# Altium footprint library mw.PcbLib: 123 footprints (part 6 of 8)
Each footprint in its own frame and in the unit in brackets; x right, y up, seen from the top. Pads: shape width x height; smd on the part's side, far side on the other; paste and mask are expansions set on the pad; w line width, h text height; cw(c..) or ccw(c..) is an arc to the next point about the centre after c.
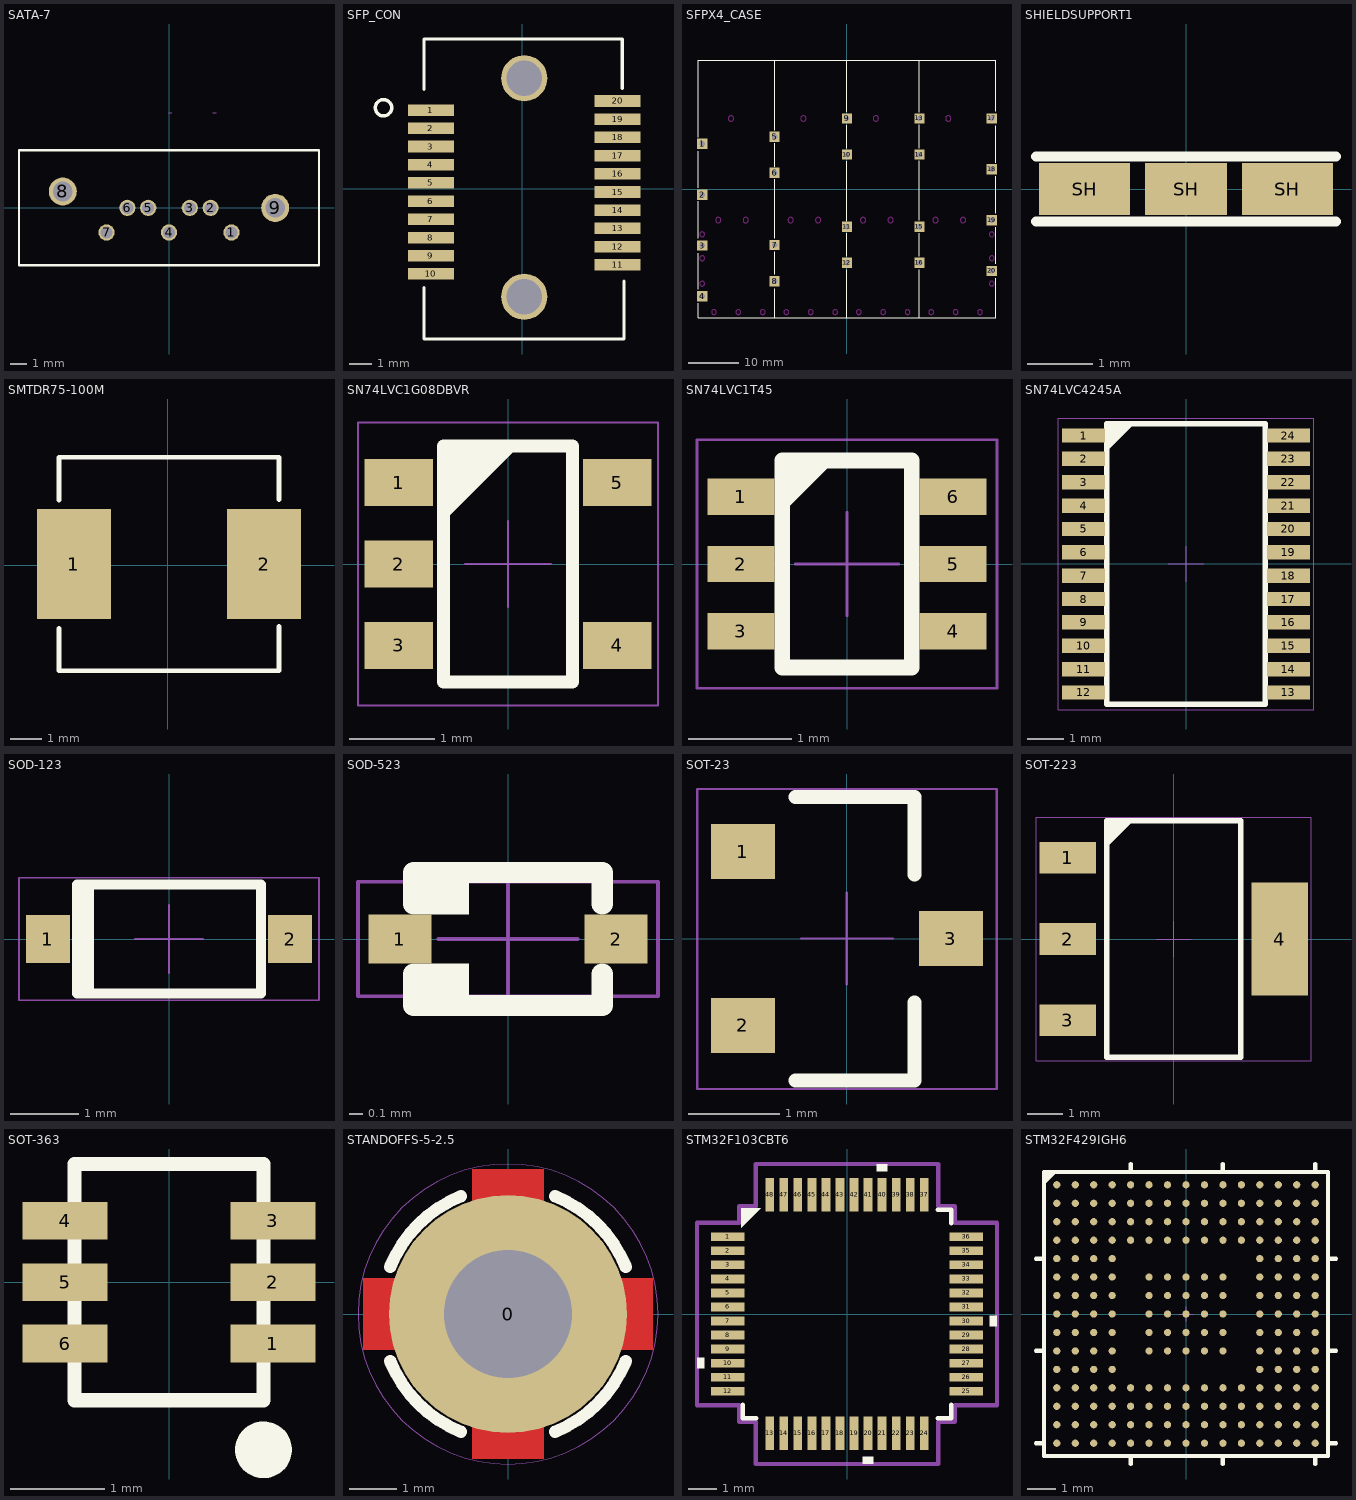
[diagram p5: the footprints below, top view; thin cyan lines are the x and y axes]

## SATA-7 [mm] "SATA-7"
pads (9):
  round 0.994 hole 0.74: 1(3.81,-1.5) 2(2.54,0) 3(1.27,0) 4(0,-1.5) 5(-1.27,0) 6(-2.54,0) 7(-3.81,-1.5)
  round 1.708 hole 1.2: 8(-6.48,1) 9(6.48,0)
Top Overlay:
  lines w0.152: -9.15,-3.5 -9.15,3.5 9.15,3.5 9.15,-3.5 -9.15,-3.5
Mechanical 11:
  lines w0.025: -0.025,5.802 0.178,5.802 ; 2.667,5.802 2.87,5.802

## SFP_CON [mil] "SFP_CON"
pads (22):
  rect 80x20 smd: 1(-158,136) 2(-158,104.5) 3(-158,73.01) 4(-158,41.51) 5(-158,10.02) 6(-158,-21.48) 7(-158,-52.98) 8(-158,-84.47) 9(-158,-115.97) 10(-158,-147.46) 11(164.83,-131.72) 12(164.83,-100.22) 13(164.83,-68.72) 14(164.83,-37.23) 15(164.83,-5.73) 16(164.83,25.76) 17(164.83,57.26) 18(164.83,88.76) 19(164.83,120.25) 20(164.83,151.75)
  round 80 hole 62: " "(3.42,-186.83) " "(3.42,191.12)
Top Overlay:
  circle w6: c-240,140 r14.14
  lines w6: -170,-171 -170,-260 176,-260 176,-160 ; -170,172 -170,259 173,259 173,174

## SFPX4_CASE [mil] "SFPX4_CASE"
pads (20):
  rect 80x80 hole 42: 1(-1122.04,349.41) 2(-1122.04,-44.29) 3(-1122.04,-437.99) 4(-1122.04,-831.69) 5(-561.02,404.53) 6(-561.02,125) 7(-561.02,-434.05) 8(-561.02,-713.58) 9(0,546.26) 10(0,266.74) 11(0,-292.32) 12(0,-571.85) 13(561.02,546.26) 14(561.02,266.74) 15(561.02,-292.32) 16(561.02,-571.85) 17(1122.04,546.26) 18(1122.04,152.56) 19(1122.04,-241.14) 20(1122.04,-634.84)
Top Overlay:
  lines w6: -1153.54,-885.98 -1153.54,-999.01 1153.54,-999.01 1153.54,-690.98 ; -1153.54,-775.98 -1153.54,-495.98 ; -1153.54,-380.98 -1153.54,-95.98 ; -1153.54,9.02 -1153.54,294.02 ; -1153.54,399.02 -1153.54,999.02 1153.54,999.02 1153.54,604.02 ; -561.02,-995.98 -561.02,-770.98 ; -561.02,-660.98 -561.02,-485.98 ; -561.02,-380.98 -561.02,74.02 ; -561.02,174.02 -561.02,354.02 ; -561.02,454.02 -561.02,998 -560,999.02 ; 0,-995.98 0,-625.98 ; 0,-520.98 0,-340.98 ; 0,-245.98 0,214.02 ; 0,314.02 0,494.02 ; 0,599.02 0,998 1.02,999.02 ; 561.02,-995.98 561.02,-625.98 ; 561.02,-520.98 561.02,-340.98 ; 561.02,-240.98 561.02,219.02 ; 561.02,314.02 561.02,499.02 ; 561.02,594.02 561.02,998 562.04,999.02 ; 1153.54,-580.98 1153.54,-295.98 ; 1153.54,-185.98 1153.54,99.02 ; 1153.54,204.02 1153.54,489.02
Keep-Out Layer:
  circle w1: c-337.79,546.26 r21
  circle w1: c-223.62,-241.14 r21
  circle w1: c-436.22,-241.14 r21
  circle w1: c223.23,546.26 r21
  circle w1: c337.4,-241.14 r21
  circle w1: c124.8,-241.14 r21
  circle w1: c-280.71,-953.74 r19
  circle w1: c-469.68,-953.74 r19
  circle w1: c-91.73,-953.74 r19
  circle w1: c280.31,-953.74 r19
  circle w1: c91.34,-953.74 r19
  circle w1: c469.29,-953.74 r19
  circle w1: c-997.24,-241.14 r21
  circle w1: c-784.64,-241.14 r21
  circle w1: c-1122.04,-351.38 r19
  circle w1: c-1122.04,-536.42 r19
  circle w1: c-1122.04,-733.27 r19
  circle w1: c-841.73,-953.74 r19
  circle w1: c-1030.7,-953.74 r19
  circle w1: c-652.75,-953.74 r19
  circle w1: c-898.81,546.26 r21
  circle w1: c784.25,546.26 r21
  circle w1: c685.82,-241.14 r21
  circle w1: c898.42,-241.14 r21
  circle w1: c1122.04,-351.38 r19
  circle w1: c1122.04,-536.42 r19
  circle w1: c1122.04,-733.27 r19
  circle w1: c652.36,-953.74 r19
  circle w1: c841.33,-953.74 r19
  circle w1: c1030.31,-953.74 r19
Mechanical 10:
  text "1" at -1122.04,359.41 h25
  text "2" at -1122.04,-34.29 h25
  text "3" at -1122.04,-427.99 h25
  text "4" at -1122.04,-821.69 h25
  text "5" at -561.02,414.53 h25
  text "6" at -561.02,135 h25
  text "7" at -561.02,-424.05 h25
  text "8" at -561.02,-703.58 h25
  text "9" at 0,556.26 h25
  text "10" at 0,286.74 h25
  text "11" at 0,-272.32 h25
  text "12" at 0,-551.85 h25
  text "13" at 561.02,566.26 h25
  text "14" at 561.02,286.74 h25
  text "15" at 561.02,-272.32 h25
  text "16" at 561.02,-551.85 h25
  text "17" at 1122.04,566.26 h25
  text "18" at 1122.04,172.56 h25
  text "19" at 1122.04,-221.14 h25
  text "20" at 1122.04,-614.84 h25

## SHIELDSUPPORT1 [mm] "YS0073A1 L4.4xW0.8xH0.8 0.2"
pads (3):
  rect 1.4x0.8 smd: SH(-1.555,0) SH(1.555,0)
  rect 1.25x0.8 smd: SH(0,0)
Top Overlay:
  lines w0.152: -2.3,-0.5 2.3,-0.5 ; -2.3,0.5 2.3,0.5

## SMTDR75-100M [mil] "SMTDR75-100M"
pads (2):
  rect 92.5x137.8 smd: 1(-117.59,1.5) 2(120.59,1.5)
Top Overlay:
  lines w6: -136.3,-79.5 -136.3,-132.36 139.3,-132.36 139.3,-76.5 ; -136.3,81.5 -136.3,135.36 139.3,135.36 139.3,82.5

## SN74LVC1G08DBVR [mm] "SOT23, 5-Leads, Body 2.90x2.80mm, Pitch 0.95mm, IPC High Density"
height 1.45
pads (5):
  rect 0.8x0.55 smd: 1(-1.275,0.95) 2(-1.275,0) 3(-1.275,-0.95) 4(1.275,-0.95) 5(1.275,0.95)
Top Overlay:
  region: -0.75,1.375 0.124,1.375 -0.75,0.501
  lines w0.152: -0.75,-1.375 -0.75,1.375 0.75,1.375 0.75,-1.375 -0.75,-1.375
Mechanical 15:
  lines w0.025: -0.5,0 0.5,0 ; 0,-0.5 0,0.5 ; -1.75,-1.65 1.75,-1.65 1.75,1.65 -1.75,1.65 -1.75,-1.65

## SN74LVC1T45 [mm]
height 1
pads (6):
  rect 0.65x0.35 smd: 1(-1.025,0.65) 2(-1.025,0) 3(-1.025,-0.65) 4(1.025,-0.65) 5(1.025,0) 6(1.025,0.65)
Top Overlay:
  region: -0.127,0.991 -0.625,0.492 -0.625,1
  lines w0.152: -0.625,-1 0.625,-1 0.625,1 -0.625,1 -0.625,-1
Mechanical 15:
  lines w0.025: -0.5,0 0.5,0 ; 0,-0.5 0,0.5 ; -1.45,-1.2 1.45,-1.2 1.45,1.2 -1.45,1.2 -1.45,-1.2
3D body "sn74lvc1t45dckr.STEP": height 0.98, standoff 0, extent -1.035,-1 1.035,1

## SN74LVC4245A [mm] "TSOP, 24-Leads, Body 7.80x4.47mm, Pitch 0.65mm, IPC High Density"
height 1.2
pads (24):
  rect 1.2x0.4 smd: 1(-2.85,3.575) 2(-2.85,2.925) 3(-2.85,2.275) 4(-2.85,1.625) 5(-2.85,0.975) 6(-2.85,0.325) 7(-2.85,-0.325) 8(-2.85,-0.975) 9(-2.85,-1.625) 10(-2.85,-2.275) 11(-2.85,-2.925) 12(-2.85,-3.575) 13(2.85,-3.575) 14(2.85,-2.925) 15(2.85,-2.275) 16(2.85,-1.625) 17(2.85,-0.975) 18(2.85,-0.325) 19(2.85,0.325) 20(2.85,0.975) 21(2.85,1.625) 22(2.85,2.275) 23(2.85,2.925) 24(2.85,3.575)
Top Overlay:
  region: -1.434,3.9 -2.2,3.134 -2.2,3.9
  lines w0.152: -2.2,-3.9 -2.2,3.9 2.2,3.9 2.2,-3.9 -2.2,-3.9
Mechanical 15:
  lines w0.025: -0.5,0 0.5,0 ; 0,-0.5 0,0.5 ; -3.55,-4.05 -3.55,4.05 3.55,4.05 3.55,-4.05 -3.55,-4.05

## SOD-123 [mm]
pads (2):
  rect 0.65x0.7 smd: 1(-1.775,0) 2(1.775,0)
Top Overlay:
  rectangle: -1.35,-0.8 -1.1,0.8
  lines w0.152: -1.35,-0.8 -1.35,0.8 1.35,0.8 1.35,-0.8 -1.35,-0.8
Mechanical 15:
  lines w0.025: -0.5,0 0.5,0 ; 0,-0.5 0,0.5 ; -2.2,-0.9 2.2,-0.9 2.2,0.9 -2.2,0.9 -2.2,-0.9
3D body "sod123.STEP": height 1.17, standoff 0, extent -1.85,-0.8 1.85,0.8

## SOD-523 [mm]
pads (2):
  rect 0.45x0.35 smd: 1(-0.775,0) 2(0.775,0)
Top Overlay:
  rectangle: -0.676,-0.476 -0.281,-0.174
  rectangle: -0.676,0.174 -0.281,0.476
  lines w0.152: -0.676,-0.25 -0.676,-0.476 0.676,-0.476 0.676,-0.25 ; -0.676,0.25 -0.676,0.476 0.676,0.476 0.676,0.25
Mechanical 15:
  lines w0.025: -0.5,0 0.5,0 ; 0,-0.5 0,0.5 ; -1.075,-0.41 1.075,-0.41 1.075,0.41 -1.075,0.41 -1.075,-0.41
3D body "sod523.STEP": height 0.65, standoff 0, extent -0.774,-0.402 0.773,0.398

## SOT-23 [mm] "SOT-23"
pads (3):
  rect 0.7x0.6 smd: 1(-1.137,0.95) 2(-1.137,-0.95) 3(1.138,0)
Top Overlay:
  lines w0.152: -0.562,-1.55 0.738,-1.55 0.738,-0.7 ; -0.562,1.55 0.738,1.55 0.738,0.7
Mechanical 15:
  lines w0.025: -0.5,0 0.5,0 ; 0,-0.5 0,0.5 ; -1.637,-1.645 1.64,-1.645 1.64,1.635 -1.637,1.635 -1.637,-1.645
3D body "sot23-3.STEP": height 1.04, standoff 0, extent -1.244,-1.499 1.221,1.501

## SOT-223 [mm] "SOT223, 4-Leads, Body 6.50x7.00mm (avg), Pitch 2.30mm, IPC High Density"
height 1.8
pads (4):
  rect 1.6x0.9 smd: 1(-3,2.3) 2(-3,0) 3(-3,-2.3)
  rect 1.6x3.2 smd: 4(3,0)
Top Overlay:
  region: -1.9,3.35 -1.15,3.35 -1.9,2.6
  lines w0.152: -1.9,-3.35 -1.9,3.35 1.9,3.35 1.9,-3.35 -1.9,-3.35
Mechanical 15:
  lines w0.025: -0.5,0 0.5,0 ; 0,-0.5 0,0.5 ; -3.9,-3.45 -3.9,3.45 3.9,3.45 3.9,-3.45 -3.9,-3.45
3D body "sot223.STEP": height 1.68, standoff 0.01, extent -3.408,-3.244 3.431,3.256

## SOT-363 [mm]
pads (6):
  rect 0.9x0.4 smd: 1(1.1,-0.65) 2(1.1,0) 3(1.1,0.65) 4(-1.1,0.65) 5(-1.1,0) 6(-1.1,-0.65)
Top Overlay:
  circle w0.3: c1,-1.773 r0.15
  lines w0.152: -1,-1.25 1,-1.25 1,1.25 -1,1.25 -1,-1.25

## STANDOFFS-5-2.5 [mm] "外径5 台阶外径2.5"
pads (1):
  round 5 / inner round 5 / far side round 0 hole 2.7: 0(0,0)
Top Layer:
  region: -1.422,-0.762 -1.422,0.762 -3.048,0.762 -3.048,-0.762
  rectangle: -0.762,1.422 0.762,3.048
  region: 1.422,0.762 1.422,-0.762 3.048,-0.762 3.048,0.762
  region: 0.762,-1.422 -0.762,-1.422 -0.762,-3.048 0.762,-3.048
Top Overlay:
  lines w0.254: -2.476,-0.99 ccw(c0,0) -0.99,-2.476 ; -2.476,0.99 cw(c0,0) -0.99,2.476 ; 0.99,-2.476 ccw(c0,0) 2.476,-0.99 ; 0.99,2.476 cw(c0,0) 2.476,0.99
Top Paste:
  region: -0.653,2.337 -0.443,1.6 0.493,1.6 0.704,2.337
  region: -2.114,1.191 -1.445,0.818 -0.783,1.48 -1.155,2.15
  region: -2.337,-0.653 -1.6,-0.443 -1.6,0.493 -2.337,0.704
  region: -1.191,-2.114 -0.818,-1.445 -1.48,-0.783 -2.15,-1.155
  region: 0.653,-2.337 0.443,-1.6 -0.493,-1.6 -0.704,-2.337
  region: 2.114,-1.191 1.445,-0.818 0.783,-1.48 1.155,-2.15
  region: 2.337,0.653 1.6,0.443 1.6,-0.493 2.337,-0.704
  region: 2.337,0.653 1.6,0.443 1.6,-0.493 2.337,-0.704
  region: 1.191,2.114 0.818,1.445 1.48,0.783 2.15,1.155
Top Solder:
  region: -1.422,-0.762 -1.422,0.762 -3.048,0.762 -3.048,-0.762
  rectangle: -0.762,1.422 0.762,3.048
  region: 1.422,0.762 1.422,-0.762 3.048,-0.762 3.048,0.762
  region: 0.762,-1.422 -0.762,-1.422 -0.762,-3.048 0.762,-3.048
Mechanical 15:
  circle w0.025: c0,0 r3.155
  lines w0.025: -0.381,0 0.381,0 ; 0,-0.381 0,0.381
3D body "cp-m2-3.2-5.SLDPRT": height 3.2, standoff -1.5, extent -2.497,-2.5 2.497,2.5

## STM32F103CBT6 [mm]
pads (48):
  rect 1.194x0.305 smd paste+0 mask+0: 1(-4.25,2.75) 2(-4.25,2.25) 3(-4.25,1.75) 4(-4.25,1.25) 5(-4.25,0.75) 6(-4.25,0.25) 7(-4.25,-0.25) 8(-4.25,-0.75) 9(-4.25,-1.25) 10(-4.25,-1.75) 11(-4.25,-2.25) 12(-4.25,-2.75) 25(4.25,-2.75) 26(4.25,-2.25) 27(4.25,-1.75) 28(4.25,-1.25) 29(4.25,-0.75) 30(4.25,-0.25) 31(4.25,0.25) 32(4.25,0.75) 33(4.25,1.25) 34(4.25,1.75) 35(4.25,2.25) 36(4.25,2.75)
  rect 0.305x1.194 smd paste+0 mask+0: 13(-2.75,-4.25) 14(-2.25,-4.25) 15(-1.75,-4.25) 16(-1.25,-4.25) 17(-0.75,-4.25) 18(-0.25,-4.25) 19(0.25,-4.25) 20(0.75,-4.25) 21(1.25,-4.25) 22(1.75,-4.25) 23(2.25,-4.25) 24(2.75,-4.25) 37(2.75,4.25) 38(2.25,4.25) 39(1.75,4.25) 40(1.25,4.25) 41(0.75,4.25) 42(0.25,4.25) 43(-0.25,4.25) 44(-0.75,4.25) 45(-1.25,4.25) 46(-1.75,4.25) 47(-2.25,4.25) 48(-2.75,4.25)
Top Overlay:
  region: -3.08,3.778 -3.783,3.778 -3.783,3.075
  region: 1.441,5.101 1.06,5.101 1.06,5.355 1.441,5.355
  region: 5.101,-0.059 5.355,-0.059 5.355,-0.44 5.101,-0.44
  region: 0.941,-5.101 0.56,-5.101 0.56,-5.355 0.941,-5.355
  region: -5.101,-1.559 -5.355,-1.559 -5.355,-1.94 -5.101,-1.94
  lines w0.152: -3.721,-3.235 -3.721,-3.721 -3.235,-3.721 ; 3.235,-3.721 3.721,-3.721 3.721,-3.235 ; 3.235,3.721 3.721,3.721 3.721,3.235
Mechanical 15:
  lines w0.152: -5.355,-3.258 -5.355,3.258 -3.848,3.258 -3.848,3.848 -3.258,3.848 -3.258,5.355 3.258,5.355 3.258,3.848 3.848,3.848 3.848,3.258 5.355,3.258 5.355,-3.258 3.848,-3.258 3.848,-3.848 3.258,-3.848 3.258,-5.355 -3.258,-5.355 -3.258,-3.848 -3.848,-3.848 -3.848,-3.258 -5.355,-3.258

## STM32F429IGH6 [mil] "BGA176, Pitch 0.65mm, 10mmx10mm"
pads (201):
  round 10 smd paste+0 mask+0: A1(-179.13,179.13) A2(-153.54,179.13) A3(-127.95,179.13) A4(-102.36,179.13) A5(-76.77,179.13) A6(-51.18,179.13) A7(-25.59,179.13) A8(0,179.13) A9(25.59,179.13) A10(51.18,179.13) A11(76.77,179.13) A12(102.36,179.13) A13(127.95,179.13) A14(153.54,179.13) A15(179.13,179.13) B1(-179.13,153.54) B2(-153.54,153.54) B3(-127.95,153.54) B4(-102.36,153.54) B5(-76.77,153.54) B6(-51.18,153.54) B7(-25.59,153.54) B8(0,153.54) B9(25.59,153.54) B10(51.18,153.54) B11(76.77,153.54) B12(102.36,153.54) B13(127.95,153.54) B14(153.54,153.54) B15(179.13,153.54) C1(-179.13,127.95) C2(-153.54,127.95) C3(-127.95,127.95) C4(-102.36,127.95) C5(-76.77,127.95) C6(-51.18,127.95) C7(-25.59,127.95) C8(0,127.95) C9(25.59,127.95) C10(51.18,127.95) C11(76.77,127.95) C12(102.36,127.95) C13(127.95,127.95) C14(153.54,127.95) C15(179.13,127.95) D1(-179.13,102.36) D2(-153.54,102.36) D3(-127.95,102.36) D4(-102.36,102.36) D5(-76.77,102.36) D6(-51.18,102.36) D7(-25.59,102.36) D8(0,102.36) D9(25.59,102.36) D10(51.18,102.36) D11(76.77,102.36) D12(102.36,102.36) D13(127.95,102.36) D14(153.54,102.36) D15(179.13,102.36) E1(-179.13,76.77) E2(-153.54,76.77) E3(-127.95,76.77) E4(-102.36,76.77) E12(102.36,76.77) E13(127.95,76.77) E14(153.54,76.77) E15(179.13,76.77) F1(-179.13,51.18) F2(-153.54,51.18) F3(-127.95,51.18) F4(-102.36,51.18) F6(-51.18,51.18) F7(-25.59,51.18) F8(0,51.18) F9(25.59,51.18) F10(51.18,51.18) F12(102.36,51.18) F13(127.95,51.18) F14(153.54,51.18) F15(179.13,51.18) G1(-179.13,25.59) G2(-153.54,25.59) G3(-127.95,25.59) G4(-102.36,25.59) G6(-51.18,25.59) G7(-25.59,25.59) G8(0,25.59) G9(25.59,25.59) G10(51.18,25.59) G12(102.36,25.59) G13(127.95,25.59) G14(153.54,25.59) G15(179.13,25.59) H1(-179.13,0) H2(-153.54,0) H3(-127.95,0) H4(-102.36,0) H6(-51.18,0) H7(-25.59,0) H8(0,0) H9(25.59,0) H10(51.18,0) H12(102.36,0) H13(127.95,0) H14(153.54,0) H15(179.13,0) J1(-179.13,-25.59) J2(-153.54,-25.59) J3(-127.95,-25.59) J4(-102.36,-25.59) J6(-51.18,-25.59) J7(-25.59,-25.59) J8(0,-25.59) J9(25.59,-25.59) J10(51.18,-25.59) J12(102.36,-25.59) J13(127.95,-25.59) J14(153.54,-25.59) J15(179.13,-25.59) K1(-179.13,-51.18) K2(-153.54,-51.18) K3(-127.95,-51.18) K4(-102.36,-51.18) K6(-51.18,-51.18) K7(-25.59,-51.18) K8(0,-51.18) K9(25.59,-51.18) K10(51.18,-51.18) K12(102.36,-51.18) K13(127.95,-51.18) K14(153.54,-51.18) K15(179.13,-51.18) L1(-179.13,-76.77) L2(-153.54,-76.77) L3(-127.95,-76.77) L4(-102.36,-76.77) L12(102.36,-76.77) L13(127.95,-76.77) L14(153.54,-76.77) L15(179.13,-76.77) M1(-179.13,-102.36) M2(-153.54,-102.36) M3(-127.95,-102.36) M4(-102.36,-102.36) M5(-76.77,-102.36) M6(-51.18,-102.36) M7(-25.59,-102.36) M8(0,-102.36) M9(25.59,-102.36) M10(51.18,-102.36) M11(76.77,-102.36) M12(102.36,-102.36) M13(127.95,-102.36) M14(153.54,-102.36) M15(179.13,-102.36) N1(-179.13,-127.95) N2(-153.54,-127.95) N3(-127.95,-127.95) N4(-102.36,-127.95) N5(-76.77,-127.95) N6(-51.18,-127.95) N7(-25.59,-127.95) N8(0,-127.95) N9(25.59,-127.95) N10(51.18,-127.95) N11(76.77,-127.95) N12(102.36,-127.95) N13(127.95,-127.95) N14(153.54,-127.95) N15(179.13,-127.95) P1(-179.13,-153.54) P2(-153.54,-153.54) P3(-127.95,-153.54) P4(-102.36,-153.54) P5(-76.77,-153.54) P6(-51.18,-153.54) P7(-25.59,-153.54) P8(0,-153.54) P9(25.59,-153.54) P10(51.18,-153.54) P11(76.77,-153.54) P12(102.36,-153.54) P13(127.95,-153.54) P14(153.54,-153.54) P15(179.13,-153.54) R1(-179.13,-179.13) R2(-153.54,-179.13) R3(-127.95,-179.13) R4(-102.36,-179.13) R5(-76.77,-179.13) R6(-51.18,-179.13) R7(-25.59,-179.13) R8(0,-179.13) R9(25.59,-179.13) R10(51.18,-179.13) R11(76.77,-179.13) R12(102.36,-179.13) R13(127.95,-179.13) R14(153.54,-179.13) R15(179.13,-179.13)
Top Overlay:
  region: -179.13,196.85 -196.85,179.13 -196.85,196.85
  lines w6: -208,-179.13 -198,-179.13 ; -208,-51.18 -198,-51.18 ; -208,76.77 -198,76.77 ; -76.77,-208 -76.77,-198 ; -76.77,198 -76.77,208 ; 51.18,-208 51.18,-198 ; 51.18,198 51.18,208 ; 179.13,-208 179.13,-198 ; 179.13,198 179.13,208 ; 198,-179.13 208,-179.13 ; 198,-51.18 208,-51.18 ; 198,76.77 208,76.77 ; -196.85,-196.85 -196.85,196.85 196.85,196.85 196.85,-196.85 -196.85,-196.85
Mechanical 13:
  lines w1: -198,-198 198,-198 198,198 -198,198 -198,-198
Mechanical 15:
  lines w1: -10,0 10,0 ; 0,-10 0,10 ; -196.85,-196.85 -196.85,196.85 196.85,196.85 196.85,-196.85 -196.85,-196.85